# EAGLE library part MAX5413 (library Simplex-ICs)
MAX5413 / MAX5414 / MAX 5415 dual digital potentiometers
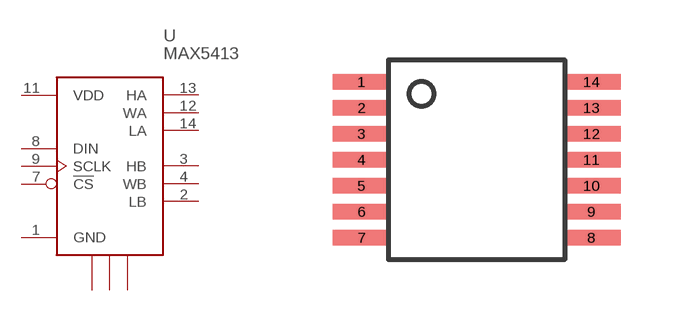
[diagram p13: symbol with the pads of TSSOP14; footprint TSSOP14]

Designator prefix -

## MAX5413  [TSSOP14]
1  GND
2  LB
3  HB
4  WB
5  NC1  nc
6  NC2  nc
7  !CS  in
8  DIN  in
9  SCLK  in
10  NC3  nc
11  VDD
12  WA
13  HA
14  LA

## Footprint TSSOP14 (pad centres in mm)
TSSOP 14pin
smd 1.45 x 0.38: 1 0,0; 2 0,-0.65; 3 0,-1.3; 4 0,-1.95; 5 0,-2.6; 6 0,-3.25; 7 0,-3.9; 8 5.75,-3.9; 9 5.75,-3.25; 10 5.75,-2.6; 11 5.75,-1.95; 12 5.75,-1.3; 13 5.75,-0.65; 14 5.75,0